# EAGLE library part L298N (library L298N)
L298N, Full Bridge Motor Driver, 3A Dual Full Bridge Motor Driver,, 25W 4.8 46 V, 15-Pin MULTIWATT 15 Source: Datasheet <http://www.st.com/web/en/resource/technical/document/datasheet/CD00000240.pdf>
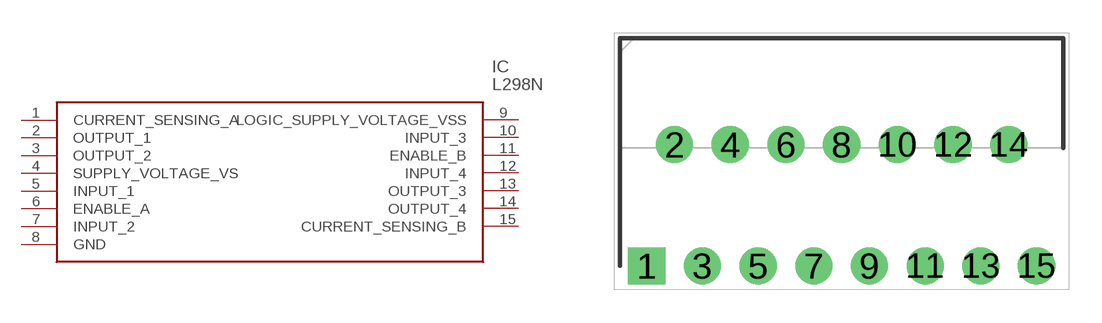
[diagram p0: symbol with the pads of TO127P500X2020X2210-15P; footprint TO127P500X2020X2210-15P]

Designator prefix IC

## L298N (Arrow_Part_Number: L298N; Arrow_Price-Stock: https://www.arrow.com/en/products/l298n/stmicroelectronics; Description: L298N, Full Bridge Motor Driver, 3A Dual Full Bridge Motor Driver,, 25W 4.8 46 V, 15-Pin MULTIWATT 15; Height: 5mm; Manufacturer_Name: STMicroelectronics; Manufacturer_Part_Number: L298N; Mouser_Part_Number: 511-L298; Mouser_Price-Stock: https://www.mouser.co.uk/ProductDetail/STMicroelectronics/L298N?qs=gr8Zi5OG3Mj6jDtNclcF9Q%3D%3D)  [TO127P500X2020X2210-15P]
1  CURRENT_SENSING_A  in
2  OUTPUT_1  out
3  OUTPUT_2  out
4  SUPPLY_VOLTAGE_VS  pwr
5  INPUT_1  in
6  ENABLE_A  in
7  INPUT_2  in
8  GND  pwr
9  LOGIC_SUPPLY_VOLTAGE_VSS  pwr
10  INPUT_3  in
11  ENABLE_B  in
12  INPUT_4  in
13  OUTPUT_3  out
14  OUTPUT_4  out
15  CURRENT_SENSING_B  in

## Footprint TO127P500X2020X2210-15P (pad centres in mm)
Multiwatt15 V
drill 1.13 pad 1.695 square: 1 0,0
drill 1.13 pad 1.695: 2 1.27,5.53; 3 2.54,0; 4 3.81,5.53; 5 5.08,0; 6 6.35,5.53; 7 7.62,0; 8 8.89,5.53; 9 10.16,0; 10 11.43,5.53; 11 12.7,0; 12 13.97,5.53; 13 15.24,0; 14 16.51,5.53; 15 17.78,0